# EAGLE library part CP2014_BREAKOUT (library ME433_Breakout)
PIN HEADER
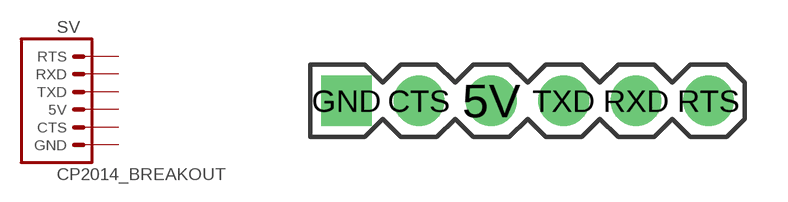
[diagram p2: symbol with the pads of MA06-1; footprint MA06-1]

Designator prefix SV

## CP2014_BREAKOUT (OC_FARNELL: unknown; OC_NEWARK: unknown)  [MA06-1]
5V  5V  pas
CTS  CTS  pas
GND  GND  pas
RTS  RTS  pas
RXD  RXD  pas
TXD  TXD  pas

## Footprint MA06-1 (pad centres in mm)
PIN HEADER
drill 1.016 pad 1.778: 5V -1.27,0; CTS -3.81,0; RTS 6.35,0; RXD 3.81,0; TXD 1.27,0
drill 1.016 pad 1.778 square: GND -6.35,0